# Altium footprint library ADC128D818.PCBLIB: 1 footprints
Each footprint in its own frame and in the unit in brackets; x right, y up, seen from the top. Pads: shape width x height; smd on the part's side, far side on the other; paste and mask are expansions set on the pad; w line width, h text height; cw(c..) or ccw(c..) is an arc to the next point about the centre after c.
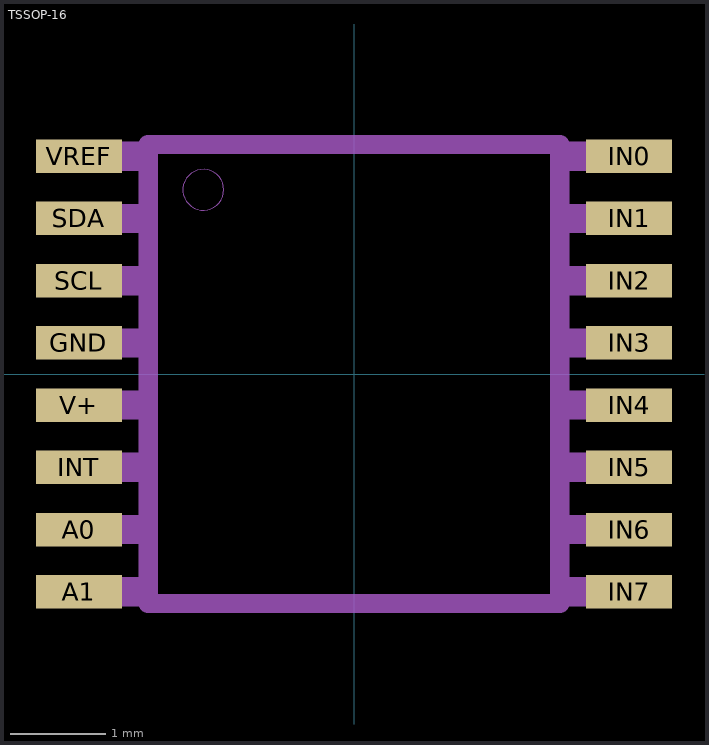
[diagram p0: the footprint, top view; thin cyan lines are the x and y axes]

## TSSOP-16 [mm]
pads (16):
  rect 0.9x0.35 smd: A0(-2.875,-1.625) A1(-2.875,-2.275) GND(-2.875,0.325) IN0(2.875,2.275) IN1(2.875,1.625) IN2(2.875,0.975) IN3(2.875,0.325) IN4(2.875,-0.325) IN5(2.875,-0.975) IN6(2.875,-1.625) IN7(2.875,-2.275) INT(-2.875,-0.975) SCL(-2.875,0.975) SDA(-2.875,1.625) V+(-2.875,-0.325) VREF(-2.875,2.275)
tDocu:
  region: -3.2,2.125 -3.2,2.425 -2.25,2.425 -2.25,2.125
  region: -3.2,1.475 -3.2,1.775 -2.25,1.775 -2.25,1.475
  region: -3.2,0.825 -3.2,1.125 -2.25,1.125 -2.25,0.825
  region: -3.2,0.175 -3.2,0.475 -2.25,0.475 -2.25,0.175
  region: -3.2,-0.475 -3.2,-0.175 -2.25,-0.175 -2.25,-0.475
  region: -3.2,-1.125 -3.2,-0.825 -2.25,-0.825 -2.25,-1.125
  region: -3.2,-1.775 -3.2,-1.475 -2.25,-1.475 -2.25,-1.775
  region: -3.2,-2.425 -3.2,-2.125 -2.25,-2.125 -2.25,-2.425
  region: 3.2,-2.125 3.2,-2.425 2.25,-2.425 2.25,-2.125
  region: 3.2,-1.475 3.2,-1.775 2.25,-1.775 2.25,-1.475
  region: 3.2,-0.825 3.2,-1.125 2.25,-1.125 2.25,-0.825
  region: 3.2,-0.175 3.2,-0.475 2.25,-0.475 2.25,-0.175
  region: 3.2,0.475 3.2,0.175 2.25,0.175 2.25,0.475
  region: 3.2,1.125 3.2,0.825 2.25,0.825 2.25,1.125
  region: 3.2,1.775 3.2,1.475 2.25,1.475 2.25,1.775
  region: 3.2,2.425 3.2,2.125 2.25,2.125 2.25,2.425
tPlace:
  circle w0: c-1.575,1.925 r0.214
  lines w0.203: -2.148,-2.399 2.148,-2.399 2.148,2.399 -2.148,2.399 -2.148,-2.399